# EAGLE library part 796636-6 (library X16_Power_Slab)
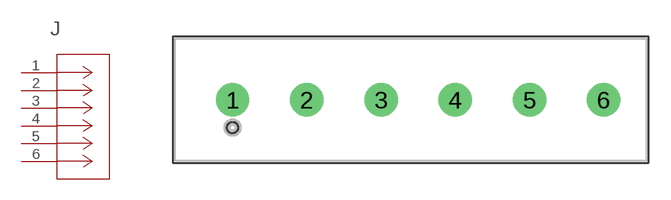
[diagram p3: symbol with the pads of CON6_P5MM_VER_TERM-BLK_TYC; footprint CON6_P5MM_VER_TERM-BLK_TYC]

Designator prefix J

## 796636-6 (COPYRIGHT: Copyright (C) 2023 Ultra Librarian. All rights reserved.; MANUFACTURER_PART_NUMBER: 796636-6; MFR_NAME: TE Connectivity)  [CON6_P5MM_VER_TERM-BLK_TYC]
1  1  pas
2  2  pas
3  3  pas
4  4  pas
5  5  pas
6  6  pas

## Footprint CON6_P5MM_VER_TERM-BLK_TYC (pad centres in mm)
drill 1.524 pad 2.032: 1 0,0; 2 5.08,0; 3 10.16,0; 4 15.24,0; 5 20.32,0; 6 25.4,0